# Altium footprint library Package_TO_SOT_THT.PcbLib: 236 footprints (part 10 of 15)
Each footprint in its own frame and in the unit in brackets; x right, y up, seen from the top. Pads: shape width x height; smd on the part's side, far side on the other; paste and mask are expansions set on the pad; w line width, h text height; cw(c..) or ccw(c..) is an arc to the next point about the centre after c.
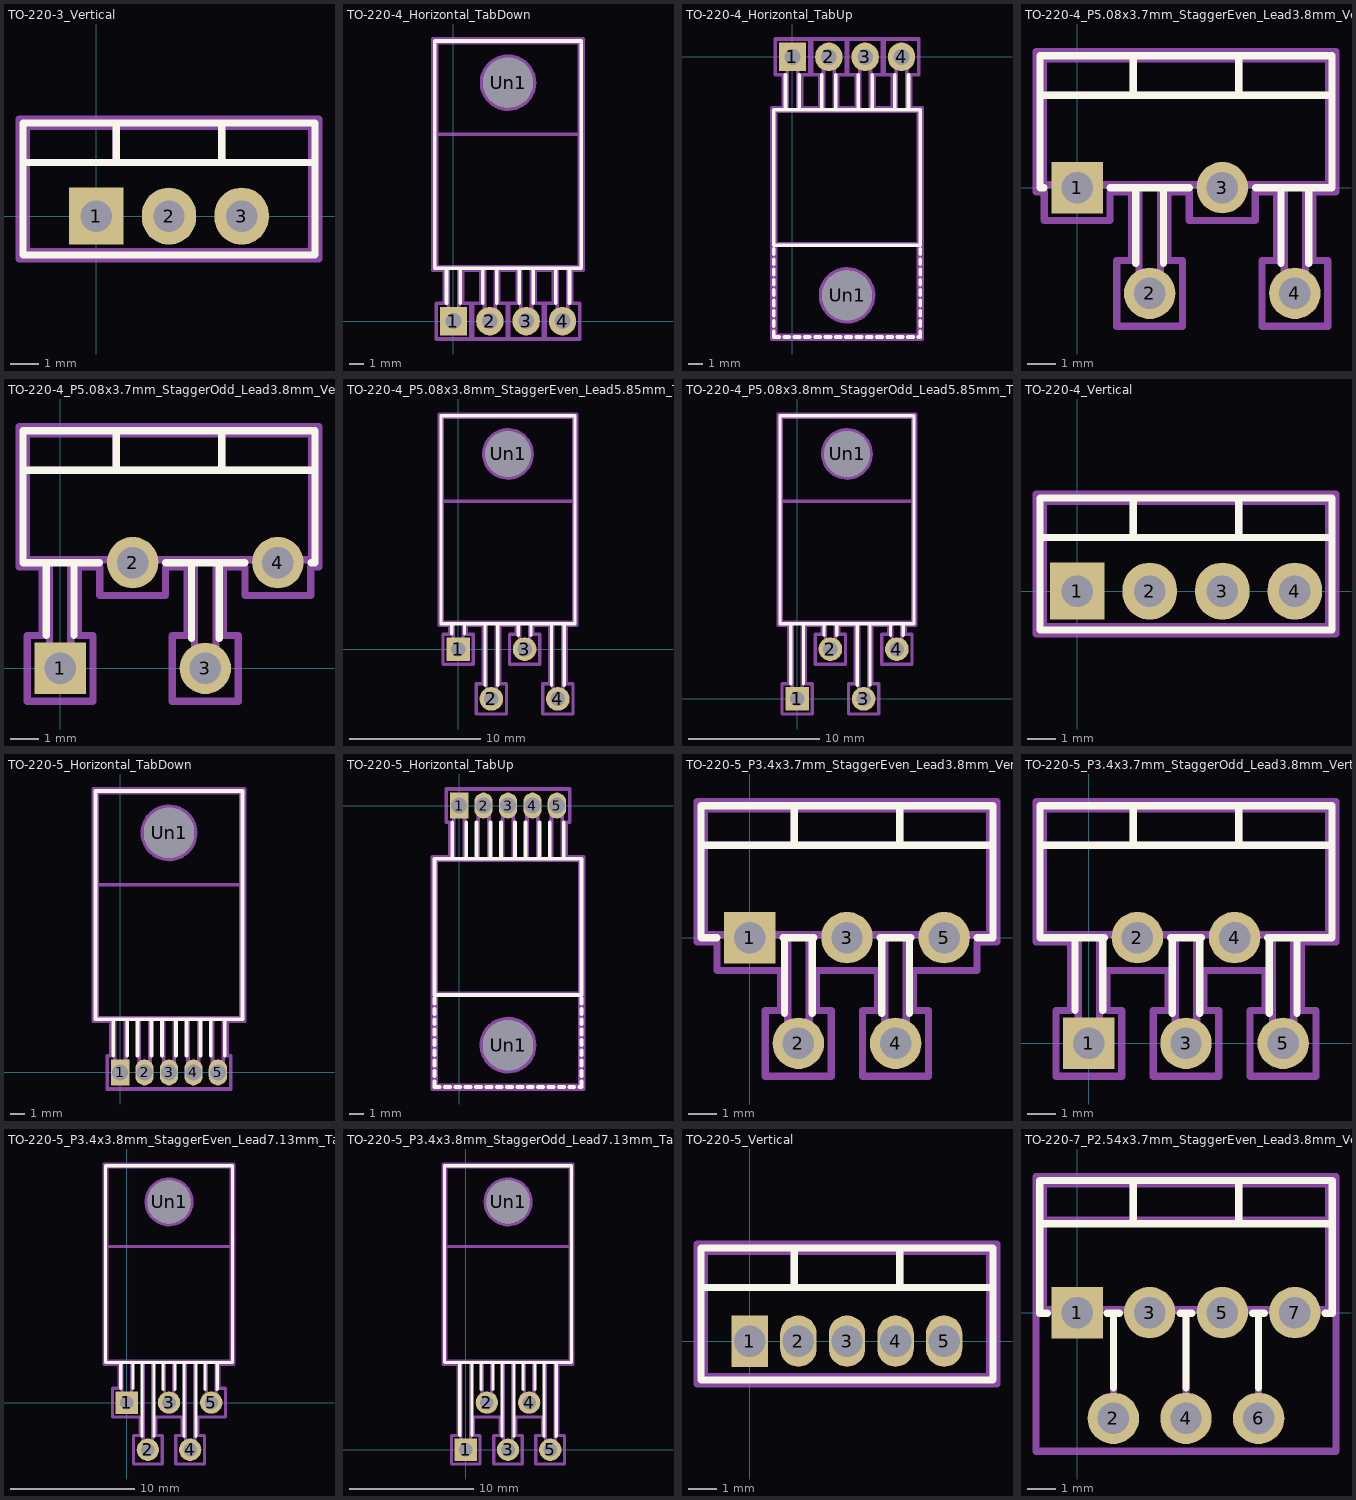
[diagram p9: the footprints below, top view; thin cyan lines are the x and y axes]

## TO-220-3_Vertical [mm]
pads (3):
  rect 1.905x2 hole 1.1: 1(0,0)
  rrect100% 1.905x2 hole 1.1: 2(2.54,0) 3(5.08,0)
F.SilkS:
  lines w0.254: -2.57,1.88 7.65,1.88 ; 0.69,1.88 0.69,3.26 ; 4.39,1.88 4.39,3.26 ; -2.57,-1.36 7.65,-1.36 7.65,3.26 -2.57,3.26 -2.57,-1.36
F.Fab:
  lines w0.254: -2.46,1.88 7.54,1.88 ; 0.69,1.88 0.69,3.15 ; 4.39,1.88 4.39,3.15 ; -2.46,-1.25 7.54,-1.25 7.54,3.15 -2.46,3.15 -2.46,-1.25
  text "'.Designator'" at -1.507,0.11 h1
F.CrtYd:
  lines w0.254: -2.71,-1.5 7.79,-1.5 7.79,3.4 -2.71,3.4 -2.71,-1.5
3D body "TO-220-3_Vertical.step": height 18.77, standoff -9.75, extent -2.585,-1.295 7.665,3.16

## TO-220-4_Horizontal_TabDown [mm]
pads (5):
  rect 1.905x2 hole 1.1: 1(0,0)
  rrect100% 1.905x2 hole 1.1: 2(2.54,0) 3(5.08,0) 4(7.62,0)
  round 3.5 hole 3.5: Un1(3.81,16.66)
F.SilkS:
  lines w0.254: -0.485,1.26 -0.485,3.7 ; 0.485,1.26 0.485,3.7 ; 2.055,1.26 2.055,3.7 ; 3.025,1.26 3.025,3.7 ; 4.595,1.26 4.595,3.7 ; 5.565,1.26 5.565,3.7 ; 7.135,1.26 7.135,3.7 ; 8.105,1.26 8.105,3.7 ; -1.3,3.7 8.92,3.7 8.92,19.57 -1.3,19.57 -1.3,3.7
F.Fab:
  circle w0.254: c3.81,16.66 r1.85
  lines w0.254: -1.19,13.06 8.81,13.06 ; -1.19,13.06 -1.19,3.81 8.81,3.81 8.81,13.06 ; -1.19,13.06 8.81,13.06 ; -1.19,13.06 -1.19,19.46 8.81,19.46 8.81,13.06 ; -0.375,0 0.375,0 0.375,3.81 -0.375,3.81 -0.375,0 ; 2.165,0 2.915,0 2.915,3.81 2.165,3.81 2.165,0 ; 4.705,0 5.455,0 5.455,3.81 4.705,3.81 4.705,0 ; 7.245,0 7.995,0 7.995,3.81 7.245,3.81 7.245,0
  text "'.Designator'" at -0.237,8.39 h1
F.CrtYd:
  lines w0.254: -1.44,3.56 -0.63,3.56 -0.63,1.25 -1.21,1.25 -1.21,-1.25 1.21,-1.25 1.21,1.25 0.63,1.25 0.63,3.56 1.91,3.56 1.91,1.25 1.33,1.25 1.33,-1.25 3.75,-1.25 3.75,1.25 3.17,1.25 3.17,3.56 4.45,3.56 4.45,1.25 3.87,1.25 3.87,-1.25 6.29,-1.25 6.29,1.25 5.71,1.25 5.71,3.56 6.99,3.56 6.99,1.25 6.41,1.25 6.41,-1.25 8.83,-1.25 8.83,1.25 8.25,1.25 8.25,3.56 9.06,3.56 9.06,19.71 -1.44,19.71 -1.44,3.56

## TO-220-4_Horizontal_TabUp [mm]
pads (5):
  rect 1.905x2 hole 1.1: 1(0,0)
  rrect100% 1.905x2 hole 1.1: 2(2.54,0) 3(5.08,0) 4(7.62,0)
  round 3.5 hole 3.5: Un1(3.81,-16.66)
F.SilkS:
  lines w0.254: -1.3,-19.57 -0.94,-19.57 ; -1.3,-19.53 -1.3,-19.17 ; -1.3,-18.81 -1.3,-18.45 ; -1.3,-18.09 -1.3,-17.73 ; -1.3,-17.37 -1.3,-17.01 ; -1.3,-16.65 -1.3,-16.29 ; -1.3,-15.93 -1.3,-15.57 ; -1.3,-15.21 -1.3,-14.85 ; -1.3,-14.49 -1.3,-14.13 ; -1.3,-13.77 -1.3,-13.41 ; -0.58,-19.57 -0.22,-19.57 ; -0.485,-3.7 -0.485,-1.26 ; 0.14,-19.57 0.5,-19.57 ; 0.485,-3.7 0.485,-1.26 ; 0.86,-19.57 1.22,-19.57 ; 1.58,-19.57 1.94,-19.57 ; 2.055,-3.7 2.055,-1.26 ; 2.3,-19.57 2.66,-19.57 ; 3.02,-19.57 3.38,-19.57 ; 3.025,-3.7 3.025,-1.26 ; 3.74,-19.57 4.1,-19.57 ; 4.46,-19.57 4.82,-19.57 ; 4.595,-3.7 4.595,-1.26 ; 5.18,-19.57 5.54,-19.57 ; 5.565,-3.7 5.565,-1.26 ; 5.9,-19.57 6.26,-19.57 ; 6.62,-19.57 6.98,-19.57 ; 7.135,-3.7 7.135,-1.26 ; 7.34,-19.57 7.7,-19.57 ; 8.06,-19.57 8.42,-19.57 ; 8.105,-3.7 8.105,-1.26 ; 8.78,-19.57 8.92,-19.57 ; 8.92,-19.53 8.92,-19.17 ; 8.92,-18.81 8.92,-18.45 ; 8.92,-18.09 8.92,-17.73 ; 8.92,-17.37 8.92,-17.01 ; 8.92,-16.65 8.92,-16.29 ; 8.92,-15.93 8.92,-15.57 ; 8.92,-15.21 8.92,-14.85 ; 8.92,-14.49 8.92,-14.13 ; 8.92,-13.77 8.92,-13.41 ; -1.3,-13.17 8.92,-13.17 8.92,-3.7 -1.3,-3.7 -1.3,-13.17
F.Fab:
  circle w0.254: c3.81,-16.66 r1.85
  lines w0.254: -1.19,-13.06 8.81,-13.06 ; -1.19,-13.06 -1.19,-19.46 8.81,-19.46 8.81,-13.06 ; -1.19,-13.06 8.81,-13.06 ; -1.19,-13.06 -1.19,-3.81 8.81,-3.81 8.81,-13.06 ; -0.375,-3.81 0.375,-3.81 0.375,0 -0.375,0 -0.375,-3.81 ; 2.165,-3.81 2.915,-3.81 2.915,0 2.165,0 2.165,-3.81 ; 4.705,-3.81 5.455,-3.81 5.455,0 4.705,0 4.705,-3.81 ; 7.245,-3.81 7.995,-3.81 7.995,0 7.245,0 7.245,-3.81
  text "'.Designator'" at -0.237,-10.07 h1
F.CrtYd:
  lines w0.254: -1.44,-19.71 9.06,-19.71 9.06,-3.56 8.25,-3.56 8.25,-1.25 8.83,-1.25 8.83,1.25 6.41,1.25 6.41,-1.25 6.99,-1.25 6.99,-3.56 5.71,-3.56 5.71,-1.25 6.29,-1.25 6.29,1.25 3.87,1.25 3.87,-1.25 4.45,-1.25 4.45,-3.56 3.17,-3.56 3.17,-1.25 3.75,-1.25 3.75,1.25 1.33,1.25 1.33,-1.25 1.91,-1.25 1.91,-3.56 0.63,-3.56 0.63,-1.25 1.21,-1.25 1.21,1.25 -1.21,1.25 -1.21,-1.25 -0.63,-1.25 -0.63,-3.56 -1.44,-3.56 -1.44,-19.71

## TO-220-4_P5.08x3.7mm_StaggerEven_Lead3.8mm_Vertical [mm]
pads (4):
  rect 1.8x1.8 hole 1.1: 1(0,0)
  round 1.8 hole 1.1: 2(2.54,-3.7) 3(5.08,0) 4(7.62,-3.7)
F.SilkS:
  lines w0.254: -1.3,3.23 8.92,3.23 ; -1.16,-0.01 -1.3,-0.01 -1.3,4.61 8.92,4.61 8.92,-0.01 6.24,-0.01 ; 1.16,-0.01 3.92,-0.01 ; 1.96,3.23 1.96,4.61 ; 2.055,-2.646 2.055,-0.01 ; 3.025,-2.646 3.025,-0.01 ; 5.66,3.23 5.66,4.61 ; 7.135,-2.646 7.135,-0.01 ; 8.105,-2.646 8.105,-0.01
F.Fab:
  lines w0.254: -1.19,3.23 8.81,3.23 ; 1.96,3.23 1.96,4.5 ; 5.66,3.23 5.66,4.5 ; -1.19,0.1 8.81,0.1 8.81,4.5 -1.19,4.5 -1.19,0.1 ; -0.375,0 0.375,0 0.375,0.1 -0.375,0.1 -0.375,0 ; 2.165,-3.7 2.915,-3.7 2.915,0.1 2.165,0.1 2.165,-3.7 ; 4.705,0 5.455,0 5.455,0.1 4.705,0.1 4.705,0 ; 7.245,-3.7 7.995,-3.7 7.995,0.1 7.245,0.1 7.245,-3.7
  text "'.Designator'" at -0.237,1.46 h1
F.CrtYd:
  lines w0.254: -1.44,-0.15 -1.15,-0.15 -1.15,-1.15 1.15,-1.15 1.15,-0.15 1.91,-0.15 1.91,-2.55 1.39,-2.55 1.39,-4.85 3.69,-4.85 3.69,-2.55 3.17,-2.55 3.17,-0.15 3.92,-0.15 3.92,-1.15 6.23,-1.15 6.23,-0.15 6.99,-0.15 6.99,-2.55 6.47,-2.55 6.47,-4.85 8.77,-4.85 8.77,-2.55 8.25,-2.55 8.25,-0.15 9.06,-0.15 9.06,4.75 -1.44,4.75 -1.44,-0.15

## TO-220-4_P5.08x3.7mm_StaggerOdd_Lead3.8mm_Vertical [mm]
pads (4):
  rect 1.8x1.8 hole 1.1: 1(0,0)
  round 1.8 hole 1.1: 2(2.54,3.7) 3(5.08,0) 4(7.62,3.7)
F.SilkS:
  lines w0.254: -1.3,6.93 8.92,6.93 ; -0.485,1.16 -0.485,3.69 ; 0.485,1.16 0.485,3.69 ; 1.38,3.69 -1.3,3.69 -1.3,8.31 8.92,8.31 8.92,3.69 8.78,3.69 ; 1.96,6.93 1.96,8.31 ; 3.7,3.69 6.46,3.69 ; 4.595,1.054 4.595,3.69 ; 5.565,1.054 5.565,3.69 ; 5.66,6.93 5.66,8.31
F.Fab:
  lines w0.254: -1.19,6.93 8.81,6.93 ; 1.96,6.93 1.96,8.2 ; 5.66,6.93 5.66,8.2 ; -1.19,3.8 -1.19,8.2 8.81,8.2 8.81,3.8 -1.19,3.8 ; -0.375,0 -0.375,3.8 0.375,3.8 0.375,0 -0.375,0 ; 2.165,3.7 2.165,3.8 2.915,3.8 2.915,3.7 2.165,3.7 ; 4.705,0 4.705,3.8 5.455,3.8 5.455,0 4.705,0 ; 7.245,3.7 7.245,3.8 7.995,3.8 7.995,3.7 7.245,3.7
  text "'.Designator'" at -0.237,5.16 h1
F.CrtYd:
  lines w0.254: -1.44,3.55 -1.44,8.45 9.06,8.45 9.06,3.55 8.77,3.55 8.77,2.55 6.47,2.55 6.47,3.55 5.71,3.55 5.71,1.15 6.23,1.15 6.23,-1.15 3.92,-1.15 3.92,1.15 4.45,1.15 4.45,3.55 3.69,3.55 3.69,2.55 1.39,2.55 1.39,3.55 0.63,3.55 0.63,1.15 1.15,1.15 1.15,-1.15 -1.15,-1.15 -1.15,1.15 -0.63,1.15 -0.63,3.55 -1.44,3.55

## TO-220-4_P5.08x3.8mm_StaggerEven_Lead5.85mm_TabDown [mm]
pads (5):
  rect 1.8x1.8 hole 1.1: 1(0,0)
  round 1.8 hole 1.1: 2(2.54,-3.8) 3(5.08,0) 4(7.62,-3.8)
  round 3.5 hole 3.5: Un1(3.81,14.9)
F.SilkS:
  lines w0.254: -0.485,1.16 -0.485,1.94 ; 0.485,1.16 0.485,1.94 ; 2.055,-2.746 2.055,1.94 ; 3.025,-2.746 3.025,1.94 ; 4.595,1.054 4.595,1.94 ; 5.565,1.054 5.565,1.94 ; 7.135,-2.746 7.135,1.94 ; 8.105,-2.746 8.105,1.94 ; -1.3,1.94 -1.3,17.81 8.92,17.81 8.92,1.94 -1.3,1.94
F.Fab:
  circle w0.254: c3.81,14.9 r1.85
  lines w0.254: -1.19,11.3 -1.19,17.7 8.81,17.7 8.81,11.3 ; -1.19,11.3 8.81,11.3 ; -1.19,11.3 -1.19,2.05 8.81,2.05 8.81,11.3 ; -1.19,11.3 8.81,11.3 ; -0.375,0 -0.375,2.05 0.375,2.05 0.375,0 -0.375,0 ; 2.165,-3.8 2.165,2.05 2.915,2.05 2.915,-3.8 2.165,-3.8 ; 4.705,0 4.705,2.05 5.455,2.05 5.455,0 4.705,0 ; 7.245,-3.8 7.245,2.05 7.995,2.05 7.995,-3.8 7.245,-3.8
  text "'.Designator'" at -0.237,5.66 h1
F.CrtYd:
  lines w0.254: -1.44,1.8 -1.44,17.95 9.06,17.95 9.06,1.8 8.25,1.8 8.25,-2.65 8.77,-2.65 8.77,-4.95 6.47,-4.95 6.47,-2.65 6.99,-2.65 6.99,1.8 5.71,1.8 5.71,1.15 6.23,1.15 6.23,-1.15 3.92,-1.15 3.92,1.15 4.45,1.15 4.45,1.8 3.17,1.8 3.17,-2.65 3.69,-2.65 3.69,-4.95 1.39,-4.95 1.39,-2.65 1.91,-2.65 1.91,1.8 0.63,1.8 0.63,1.15 1.15,1.15 1.15,-1.15 -1.15,-1.15 -1.15,1.15 -0.63,1.15 -0.63,1.8 -1.44,1.8

## TO-220-4_P5.08x3.8mm_StaggerOdd_Lead5.85mm_TabDown [mm]
pads (5):
  rect 1.8x1.8 hole 1.1: 1(0,0)
  round 1.8 hole 1.1: 2(2.54,3.8) 3(5.08,0) 4(7.62,3.8)
  round 3.5 hole 3.5: Un1(3.81,18.7)
F.SilkS:
  lines w0.254: -0.485,1.16 -0.485,5.74 ; 0.485,1.16 0.485,5.74 ; 2.055,4.854 2.055,5.74 ; 3.025,4.854 3.025,5.74 ; 4.595,1.054 4.595,5.74 ; 5.565,1.054 5.565,5.74 ; 7.135,4.854 7.135,5.74 ; 8.105,4.854 8.105,5.74 ; -1.3,5.74 8.92,5.74 8.92,21.61 -1.3,21.61 -1.3,5.74
F.Fab:
  circle w0.254: c3.81,18.7 r1.85
  lines w0.254: -1.19,15.1 8.81,15.1 ; -1.19,15.1 -1.19,5.85 8.81,5.85 8.81,15.1 ; -1.19,15.1 8.81,15.1 ; -1.19,15.1 -1.19,21.5 8.81,21.5 8.81,15.1 ; -0.375,0 0.375,0 0.375,5.85 -0.375,5.85 -0.375,0 ; 2.165,3.8 2.915,3.8 2.915,5.85 2.165,5.85 2.165,3.8 ; 4.705,0 5.455,0 5.455,5.85 4.705,5.85 4.705,0 ; 7.245,3.8 7.995,3.8 7.995,5.85 7.245,5.85 7.245,3.8
  text "'.Designator'" at -0.237,9.46 h1
F.CrtYd:
  lines w0.254: -1.44,5.6 -0.63,5.6 -0.63,1.15 -1.15,1.15 -1.15,-1.15 1.15,-1.15 1.15,1.15 0.63,1.15 0.63,5.6 1.91,5.6 1.91,4.95 1.39,4.95 1.39,2.65 3.69,2.65 3.69,4.95 3.17,4.95 3.17,5.6 4.45,5.6 4.45,1.15 3.92,1.15 3.92,-1.15 6.23,-1.15 6.23,1.15 5.71,1.15 5.71,5.6 6.99,5.6 6.99,4.95 6.47,4.95 6.47,2.65 8.77,2.65 8.77,4.95 8.25,4.95 8.25,5.6 9.06,5.6 9.06,21.75 -1.44,21.75 -1.44,5.6

## TO-220-4_Vertical [mm]
pads (4):
  rect 1.905x2 hole 1.1: 1(0,0)
  rrect100% 1.905x2 hole 1.1: 2(2.54,0) 3(5.08,0) 4(7.62,0)
F.SilkS:
  lines w0.254: -1.3,1.88 8.92,1.88 ; 1.96,1.88 1.96,3.26 ; 5.66,1.88 5.66,3.26 ; -1.3,-1.36 -1.3,3.26 8.92,3.26 8.92,-1.36 -1.3,-1.36
F.Fab:
  lines w0.254: -1.19,1.88 8.81,1.88 ; 1.96,1.88 1.96,3.15 ; 5.66,1.88 5.66,3.15 ; -1.19,-1.25 -1.19,3.15 8.81,3.15 8.81,-1.25 -1.19,-1.25
  text "'.Designator'" at -0.237,0.11 h1
F.CrtYd:
  lines w0.254: -1.44,-1.5 -1.44,3.4 9.06,3.4 9.06,-1.5 -1.44,-1.5
3D body "TO-220-4_Vertical.step": height 18.77, standoff -9.75, extent -1.315,-1.295 8.935,3.16

## TO-220-5_Horizontal_TabDown [mm]
pads (6):
  rect 1.275x1.8 hole 1.1: 1(0,0)
  rrect100% 1.275x1.8 hole 1.1: 2(1.7,0) 3(3.4,0) 4(5.1,0) 5(6.8,0)
  round 3.5 hole 3.5: Un1(3.4,16.66)
F.SilkS:
  lines w0.254: -0.485,1.16 -0.485,3.7 ; 0.485,1.16 0.485,3.7 ; 1.215,1.16 1.215,3.7 ; 2.185,1.16 2.185,3.7 ; 2.915,1.16 2.915,3.7 ; 3.885,1.16 3.885,3.7 ; 4.615,1.16 4.615,3.7 ; 5.585,1.16 5.585,3.7 ; 6.315,1.16 6.315,3.7 ; 7.285,1.16 7.285,3.7 ; -1.71,3.7 8.51,3.7 8.51,19.57 -1.71,19.57 -1.71,3.7
F.Fab:
  circle w0.254: c3.4,16.66 r1.85
  lines w0.254: -1.6,13.06 8.4,13.06 ; -1.6,13.06 -1.6,3.81 8.4,3.81 8.4,13.06 ; -1.6,13.06 8.4,13.06 ; -1.6,13.06 -1.6,19.46 8.4,19.46 8.4,13.06 ; -0.375,0 0.375,0 0.375,3.81 -0.375,3.81 -0.375,0 ; 1.325,0 2.075,0 2.075,3.81 1.325,3.81 1.325,0 ; 3.025,0 3.775,0 3.775,3.81 3.025,3.81 3.025,0 ; 4.725,0 5.475,0 5.475,3.81 4.725,3.81 4.725,0 ; 6.425,0 7.175,0 7.175,3.81 6.425,3.81 6.425,0
  text "'.Designator'" at -0.647,8.44 h1
F.CrtYd:
  lines w0.254: -1.85,3.56 -0.63,3.56 -0.63,1.15 -0.89,1.15 -0.89,-1.15 7.69,-1.15 7.69,1.15 7.43,1.15 7.43,3.56 8.65,3.56 8.65,19.71 -1.85,19.71 -1.85,3.56

## TO-220-5_Horizontal_TabUp [mm]
pads (6):
  rect 1.275x1.8 hole 1.1: 1(0,0)
  rrect100% 1.275x1.8 hole 1.1: 2(1.7,0) 3(3.4,0) 4(5.1,0) 5(6.8,0)
  round 3.5 hole 3.5: Un1(3.4,-16.66)
F.SilkS:
  lines w0.254: -1.71,-19.57 -1.35,-19.57 ; -1.71,-19.53 -1.71,-19.17 ; -1.71,-18.81 -1.71,-18.45 ; -1.71,-18.09 -1.71,-17.73 ; -1.71,-17.37 -1.71,-17.01 ; -1.71,-16.65 -1.71,-16.29 ; -1.71,-15.93 -1.71,-15.57 ; -1.71,-15.21 -1.71,-14.85 ; -1.71,-14.49 -1.71,-14.13 ; -1.71,-13.77 -1.71,-13.41 ; -0.99,-19.57 -0.63,-19.57 ; -0.485,-3.7 -0.485,-1.16 ; -0.27,-19.57 0.09,-19.57 ; 0.45,-19.57 0.81,-19.57 ; 0.485,-3.7 0.485,-1.16 ; 1.17,-19.57 1.53,-19.57 ; 1.215,-3.7 1.215,-1.16 ; 1.89,-19.57 2.25,-19.57 ; 2.185,-3.7 2.185,-1.16 ; 2.61,-19.57 2.97,-19.57 ; 2.915,-3.7 2.915,-1.16 ; 3.33,-19.57 3.69,-19.57 ; 3.885,-3.7 3.885,-1.16 ; 4.05,-19.57 4.41,-19.57 ; 4.615,-3.7 4.615,-1.16 ; 4.77,-19.57 5.13,-19.57 ; 5.49,-19.57 5.85,-19.57 ; 5.585,-3.7 5.585,-1.16 ; 6.21,-19.57 6.57,-19.57 ; 6.315,-3.7 6.315,-1.16 ; 6.93,-19.57 7.29,-19.57 ; 7.285,-3.7 7.285,-1.16 ; 7.65,-19.57 8.01,-19.57 ; 8.37,-19.57 8.51,-19.57 ; 8.51,-19.53 8.51,-19.17 ; 8.51,-18.81 8.51,-18.45 ; 8.51,-18.09 8.51,-17.73 ; 8.51,-17.37 8.51,-17.01 ; 8.51,-16.65 8.51,-16.29 ; 8.51,-15.93 8.51,-15.57 ; 8.51,-15.21 8.51,-14.85 ; 8.51,-14.49 8.51,-14.13 ; 8.51,-13.77 8.51,-13.41 ; -1.71,-13.17 8.51,-13.17 8.51,-3.7 -1.71,-3.7 -1.71,-13.17
F.Fab:
  circle w0.254: c3.4,-16.66 r1.85
  lines w0.254: -1.6,-13.06 8.4,-13.06 ; -1.6,-13.06 -1.6,-19.46 8.4,-19.46 8.4,-13.06 ; -1.6,-13.06 8.4,-13.06 ; -1.6,-13.06 -1.6,-3.81 8.4,-3.81 8.4,-13.06 ; -0.375,-3.81 0.375,-3.81 0.375,0 -0.375,0 -0.375,-3.81 ; 1.325,-3.81 2.075,-3.81 2.075,0 1.325,0 1.325,-3.81 ; 3.025,-3.81 3.775,-3.81 3.775,0 3.025,0 3.025,-3.81 ; 4.725,-3.81 5.475,-3.81 5.475,0 4.725,0 4.725,-3.81 ; 6.425,-3.81 7.175,-3.81 7.175,0 6.425,0 6.425,-3.81
  text "'.Designator'" at -0.647,-10.12 h1
F.CrtYd:
  lines w0.254: -1.85,-19.71 8.65,-19.71 8.65,-3.56 7.43,-3.56 7.43,-1.15 7.69,-1.15 7.69,1.15 -0.89,1.15 -0.89,-1.15 -0.63,-1.15 -0.63,-3.56 -1.85,-3.56 -1.85,-19.71

## TO-220-5_P3.4x3.7mm_StaggerEven_Lead3.8mm_Vertical [mm]
pads (5):
  rect 1.8x1.8 hole 1.1: 1(0,0)
  round 1.8 hole 1.1: 2(1.7,-3.7) 3(3.4,0) 4(5.1,-3.7) 5(6.8,0)
F.SilkS:
  lines w0.254: -1.71,3.23 8.51,3.23 ; -1.16,-0.01 -1.71,-0.01 -1.71,4.61 8.51,4.61 8.51,-0.01 7.96,-0.01 ; 1.16,-0.01 2.24,-0.01 ; 1.215,-2.646 1.215,-0.01 ; 1.55,3.23 1.55,4.61 ; 2.185,-2.646 2.185,-0.01 ; 4.56,-0.01 5.64,-0.01 ; 4.615,-2.646 4.615,-0.01 ; 5.25,3.23 5.25,4.61 ; 5.585,-2.646 5.585,-0.01
F.Fab:
  lines w0.254: -1.6,3.23 8.4,3.23 ; 1.55,3.23 1.55,4.5 ; 5.25,3.23 5.25,4.5 ; -1.6,0.1 -1.6,4.5 8.4,4.5 8.4,0.1 -1.6,0.1 ; -0.375,0 -0.375,0.1 0.375,0.1 0.375,0 -0.375,0 ; 1.325,-3.7 1.325,0.1 2.075,0.1 2.075,-3.7 1.325,-3.7 ; 3.025,0 3.025,0.1 3.775,0.1 3.775,0 3.025,0 ; 4.725,-3.7 4.725,0.1 5.475,0.1 5.475,-3.7 4.725,-3.7 ; 6.425,0 6.425,0.1 7.175,0.1 7.175,0 6.425,0
  text "'.Designator'" at -0.647,1.46 h1
F.CrtYd:
  lines w0.254: -1.85,-0.15 -1.85,4.75 8.65,4.75 8.65,-0.15 7.95,-0.15 7.95,-1.15 5.73,-1.15 5.73,-2.55 6.25,-2.55 6.25,-4.85 3.94,-4.85 3.94,-2.55 4.47,-2.55 4.47,-1.15 2.33,-1.15 2.33,-2.55 2.85,-2.55 2.85,-4.85 0.54,-4.85 0.54,-2.55 1.07,-2.55 1.07,-1.15 -1.15,-1.15 -1.15,-0.15 -1.85,-0.15
3D body "TO-220-5_P3.4x3.7mm_StaggerEven_Lead3.8mm_Vertical.step": height 21.45, standoff -2.95, extent -1.8,-3.99 8.6,4.76

## TO-220-5_P3.4x3.7mm_StaggerOdd_Lead3.8mm_Vertical [mm]
pads (5):
  rect 1.8x1.8 hole 1.1: 1(0,0)
  round 1.8 hole 1.1: 2(1.7,3.7) 3(3.4,0) 4(5.1,3.7) 5(6.8,0)
F.SilkS:
  lines w0.254: -1.71,6.93 8.51,6.93 ; -0.485,1.16 -0.485,3.69 ; 0.485,1.16 0.485,3.69 ; 0.54,3.69 -1.71,3.69 -1.71,8.31 8.51,8.31 8.51,3.69 6.26,3.69 ; 1.55,6.93 1.55,8.31 ; 2.86,3.69 3.94,3.69 ; 2.915,1.054 2.915,3.69 ; 3.885,1.054 3.885,3.69 ; 5.25,6.93 5.25,8.31 ; 6.315,1.054 6.315,3.69 ; 7.285,1.054 7.285,3.69
F.Fab:
  lines w0.254: -1.6,6.93 8.4,6.93 ; 1.55,6.93 1.55,8.2 ; 5.25,6.93 5.25,8.2 ; -1.6,3.8 -1.6,8.2 8.4,8.2 8.4,3.8 -1.6,3.8 ; -0.375,0 -0.375,3.8 0.375,3.8 0.375,0 -0.375,0 ; 1.325,3.7 1.325,3.8 2.075,3.8 2.075,3.7 1.325,3.7 ; 3.025,0 3.025,3.8 3.775,3.8 3.775,0 3.025,0 ; 4.725,3.7 4.725,3.8 5.475,3.8 5.475,3.7 4.725,3.7 ; 6.425,0 6.425,3.8 7.175,3.8 7.175,0 6.425,0
  text "'.Designator'" at -0.647,5.16 h1
F.CrtYd:
  lines w0.254: -1.85,3.55 -1.85,8.45 8.65,8.45 8.65,3.55 7.43,3.55 7.43,1.15 7.95,1.15 7.95,-1.15 5.64,-1.15 5.64,1.15 6.17,1.15 6.17,2.55 4.03,2.55 4.03,1.15 4.55,1.15 4.55,-1.15 2.25,-1.15 2.25,1.15 2.77,1.15 2.77,2.55 0.63,2.55 0.63,1.15 1.15,1.15 1.15,-1.15 -1.15,-1.15 -1.15,1.15 -0.63,1.15 -0.63,3.55 -1.85,3.55
3D body "TO-220-5_P3.4x3.7mm_StaggerOdd_Lead3.8mm_Vertical.step": height 21.45, standoff -2.95, extent -1.8,-0.25 8.6,8.5

## TO-220-5_P3.4x3.8mm_StaggerEven_Lead7.13mm_TabDown [mm]
pads (6):
  rect 1.8x1.8 hole 1.1: 1(0,0)
  round 1.8 hole 1.1: 2(1.7,-3.8) 3(3.4,0) 4(5.1,-3.8) 5(6.8,0)
  round 3.5 hole 3.5: Un1(3.4,16.18)
F.SilkS:
  lines w0.254: -0.485,1.16 -0.485,3.22 ; 0.485,1.16 0.485,3.22 ; 1.215,-2.746 1.215,3.22 ; 2.185,-2.746 2.185,3.22 ; 2.915,1.054 2.915,3.22 ; 3.885,1.054 3.885,3.22 ; 4.615,-2.746 4.615,3.22 ; 5.585,-2.746 5.585,3.22 ; 6.315,1.054 6.315,3.22 ; 7.285,1.054 7.285,3.22 ; -1.71,3.22 8.51,3.22 8.51,19.09 -1.71,19.09 -1.71,3.22
F.Fab:
  circle w0.254: c3.4,16.18 r1.85
  lines w0.254: -1.6,12.58 8.4,12.58 ; -1.6,12.58 -1.6,3.33 8.4,3.33 8.4,12.58 ; -1.6,12.58 8.4,12.58 ; -1.6,12.58 -1.6,18.98 8.4,18.98 8.4,12.58 ; -0.375,0 0.375,0 0.375,3.33 -0.375,3.33 -0.375,0 ; 1.325,-3.8 2.075,-3.8 2.075,3.33 1.325,3.33 1.325,-3.8 ; 3.025,0 3.775,0 3.775,3.33 3.025,3.33 3.025,0 ; 4.725,-3.8 5.475,-3.8 5.475,3.33 4.725,3.33 4.725,-3.8 ; 6.425,0 7.175,0 7.175,3.33 6.425,3.33 6.425,0
  text "'.Designator'" at -0.647,6.3 h1
F.CrtYd:
  lines w0.254: -1.85,3.08 -0.63,3.08 -0.63,1.15 -1.15,1.15 -1.15,-1.15 1.07,-1.15 1.07,-2.65 0.54,-2.65 0.54,-4.95 2.85,-4.95 2.85,-2.65 2.33,-2.65 2.33,-1.15 4.47,-1.15 4.47,-2.65 3.94,-2.65 3.94,-4.95 6.25,-4.95 6.25,-2.65 5.73,-2.65 5.73,-1.15 7.95,-1.15 7.95,1.15 7.43,1.15 7.43,3.08 8.65,3.08 8.65,19.23 -1.85,19.23 -1.85,3.08

## TO-220-5_P3.4x3.8mm_StaggerOdd_Lead7.13mm_TabDown [mm]
pads (6):
  rect 1.8x1.8 hole 1.1: 1(0,0)
  round 1.8 hole 1.1: 2(1.7,3.8) 3(3.4,0) 4(5.1,3.8) 5(6.8,0)
  round 3.5 hole 3.5: Un1(3.4,19.98)
F.SilkS:
  lines w0.254: -0.485,1.16 -0.485,7.02 ; 0.485,1.16 0.485,7.02 ; 1.215,4.854 1.215,7.02 ; 2.185,4.854 2.185,7.02 ; 2.915,1.054 2.915,7.02 ; 3.885,1.054 3.885,7.02 ; 4.615,4.854 4.615,7.02 ; 5.585,4.854 5.585,7.02 ; 6.315,1.054 6.315,7.02 ; 7.285,1.054 7.285,7.02 ; -1.71,7.02 8.51,7.02 8.51,22.89 -1.71,22.89 -1.71,7.02
F.Fab:
  circle w0.254: c3.4,19.98 r1.85
  lines w0.254: -1.6,16.38 8.4,16.38 ; -1.6,16.38 -1.6,7.13 8.4,7.13 8.4,16.38 ; -1.6,16.38 8.4,16.38 ; -1.6,16.38 -1.6,22.78 8.4,22.78 8.4,16.38 ; -0.375,0 0.375,0 0.375,7.13 -0.375,7.13 -0.375,0 ; 1.325,3.8 2.075,3.8 2.075,7.13 1.325,7.13 1.325,3.8 ; 3.025,0 3.775,0 3.775,7.13 3.025,7.13 3.025,0 ; 4.725,3.8 5.475,3.8 5.475,7.13 4.725,7.13 4.725,3.8 ; 6.425,0 7.175,0 7.175,7.13 6.425,7.13 6.425,0
  text "'.Designator'" at -0.647,10.1 h1
F.CrtYd:
  lines w0.254: -1.85,6.88 -0.63,6.88 -0.63,1.15 -1.15,1.15 -1.15,-1.15 1.15,-1.15 1.15,1.15 0.63,1.15 0.63,2.65 2.77,2.65 2.77,1.15 2.25,1.15 2.25,-1.15 4.55,-1.15 4.55,1.15 4.03,1.15 4.03,2.65 6.17,2.65 6.17,1.15 5.64,1.15 5.64,-1.15 7.95,-1.15 7.95,1.15 7.43,1.15 7.43,6.88 8.65,6.88 8.65,23.03 -1.85,23.03 -1.85,6.88

## TO-220-5_Vertical [mm]
pads (5):
  rect 1.275x1.8 hole 1.1: 1(0,0)
  rrect100% 1.275x1.8 hole 1.1: 2(1.7,0) 3(3.4,0) 4(5.1,0) 5(6.8,0)
F.SilkS:
  lines w0.254: -1.71,1.88 8.51,1.88 ; 1.55,1.88 1.55,3.26 ; 5.25,1.88 5.25,3.26 ; -1.71,-1.36 -1.71,3.26 8.51,3.26 8.51,-1.36 -1.71,-1.36
F.Fab:
  lines w0.254: -1.6,1.88 8.4,1.88 ; 1.55,1.88 1.55,3.15 ; 5.25,1.88 5.25,3.15 ; -1.6,-1.25 -1.6,3.15 8.4,3.15 8.4,-1.25 -1.6,-1.25
  text "'.Designator'" at -0.647,0.11 h1
F.CrtYd:
  lines w0.254: -1.85,-1.5 -1.85,3.4 8.65,3.4 8.65,-1.5 -1.85,-1.5
3D body "TO-220-5_Vertical.step": height 20.85, standoff -3.55, extent -1.8,-2 8.6,2.8

## TO-220-7_P2.54x3.7mm_StaggerEven_Lead3.8mm_Vertical [mm]
pads (7):
  rect 1.8x1.8 hole 1.1: 1(0,0)
  rrect100% 1.8x1.8 hole 1.1: 2(1.27,-3.7) 3(2.54,0) 4(3.81,-3.7) 5(5.08,0) 6(6.35,-3.7) 7(7.62,0)
F.SilkS:
  lines w0.254: -1.31,3.111 8.93,3.111 ; -1.05,-0.021 -1.31,-0.021 -1.31,4.62 8.93,4.62 8.93,-0.021 8.685,-0.021 ; 1.05,-0.021 1.475,-0.021 ; 1.27,-2.635 1.27,-0.021 ; 1.96,3.111 1.96,4.62 ; 3.605,-0.021 4.016,-0.021 ; 3.81,-2.635 3.81,-0.021 ; 5.66,3.111 5.66,4.62 ; 6.145,-0.021 6.555,-0.021 ; 6.35,-2.635 6.35,-0.021
F.Fab:
  lines w0.254: -1.19,3.23 8.81,3.23 ; 0,0 0,0.1 ; 1.27,-3.7 1.27,0.1 ; 1.96,3.23 1.96,4.5 ; 2.54,0 2.54,0.1 ; 3.81,-3.7 3.81,0.1 ; 5.08,0 5.08,0.1 ; 5.66,3.23 5.66,4.5 ; 6.35,-3.7 6.35,0.1 ; 7.62,0 7.62,0.1 ; -1.19,0.1 8.81,0.1 8.81,4.5 -1.19,4.5 -1.19,0.1
  text "'.Designator'" at -0.237,4.78 h1
F.CrtYd:
  lines w0.254: -1.44,-4.85 9.06,-4.85 9.06,4.75 -1.44,4.75 -1.44,-4.85